# EAGLE library part LTC6244 (library custom_parts)
Dual 50MHz, low noise, rail-to-rail, CMOS op amp
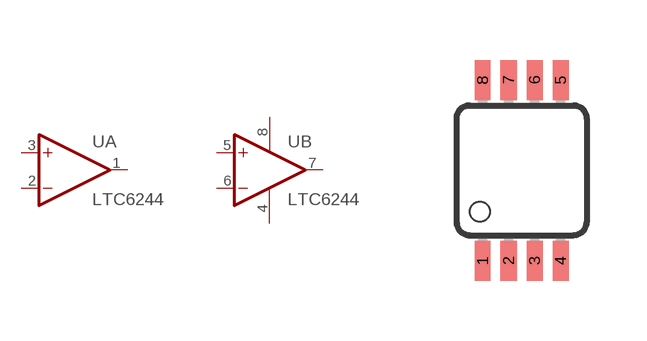
[diagram p13: symbol with the pads of MSOP08; footprint MSOP08]

Designator prefix -; gates A=OPAMPA B=OPAMPB

## LTC6244  [MSOP08]
1  A:OUT  out
2  A:-IN  in
3  A:+IN  in
4  B:V-  pwr
5  B:+IN  in
6  B:-IN  in
7  B:OUT  out
8  B:V+  pwr

## Footprint MSOP08 (pad centres in mm)
8-Lead micro SO (RM-8) Source: http://www.analog.com/UploadedFiles/Data_Sheets/703465986AD8611_2_0.pdf
smd 0.4 x 1: 1 -0.976,-2.263; 2 -0.326,-2.263; 3 0.324,-2.263; 4 0.974,-2.263; 5 0.974,2.262; 6 0.324,2.262; 7 -0.326,2.262; 8 -0.976,2.262